# EAGLE library part BMP085 (library thomas_library)
The BMP085 is an I2C barometric pressure sensor
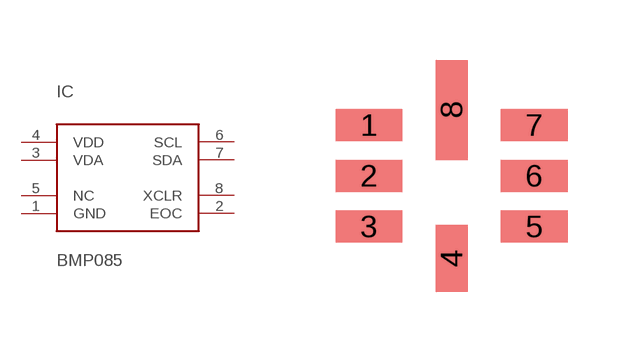
[diagram p18: symbol with the pads of LCC8; footprint LCC8]

Designator prefix IC

## BMP085  [LCC8]
1  GND
2  EOC
3  VDA
4  VDD
5  NC
6  SCL
7  SDA
8  XCLR

## Footprint LCC8 (pad centres in mm)
This is a footprint for an LCC8 package. Validated 7/30/2013.
smd 1.67 x 0.8: 1 -2.065,1.27; 2 -2.065,0; 3 -2.065,-1.27; 5 2.065,-1.27; 6 2.065,0; 7 2.065,1.27
smd 0.8 x 1.67: 4 0,-2.065
smd 0.8 x 2.5: 8 0,1.65